# EAGLE library part K161KH2 (library CasaLibrary)
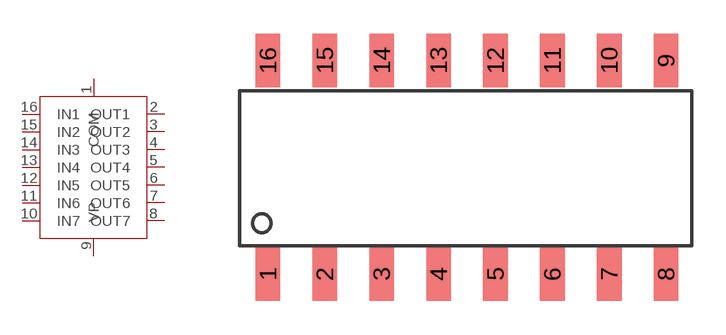
[diagram p3: symbol with the pads of SMDDIP16; footprint SMDDIP16]

Designator prefix -

## K161KH2  [SMDDIP16]
1  COM
2  OUT1
3  OUT2
4  OUT3
5  OUT4
6  OUT5
7  OUT6
8  OUT7
9  VP
10  IN7
11  IN6
12  IN5
13  IN4
14  IN3
15  IN2
16  IN1

## Footprint SMDDIP16 (pad centres in mm)
smd 1.1 x 2.4: 1 1.27,-1.27; 2 3.81,-1.27; 3 6.35,-1.27; 4 8.89,-1.27; 5 11.43,-1.27; 6 13.97,-1.27; 7 16.51,-1.27; 8 19.05,-1.27; 9 19.05,8.255; 10 16.51,8.255; 11 13.97,8.255; 12 11.43,8.255; 13 8.89,8.255; 14 6.35,8.255; 15 3.81,8.255; 16 1.27,8.255